# Altium schematic symbol library 4.3 - FLASH存储器.SchLib: 20 symbols
Pins are listed as number, name and electrical type; pins without a type are passive.

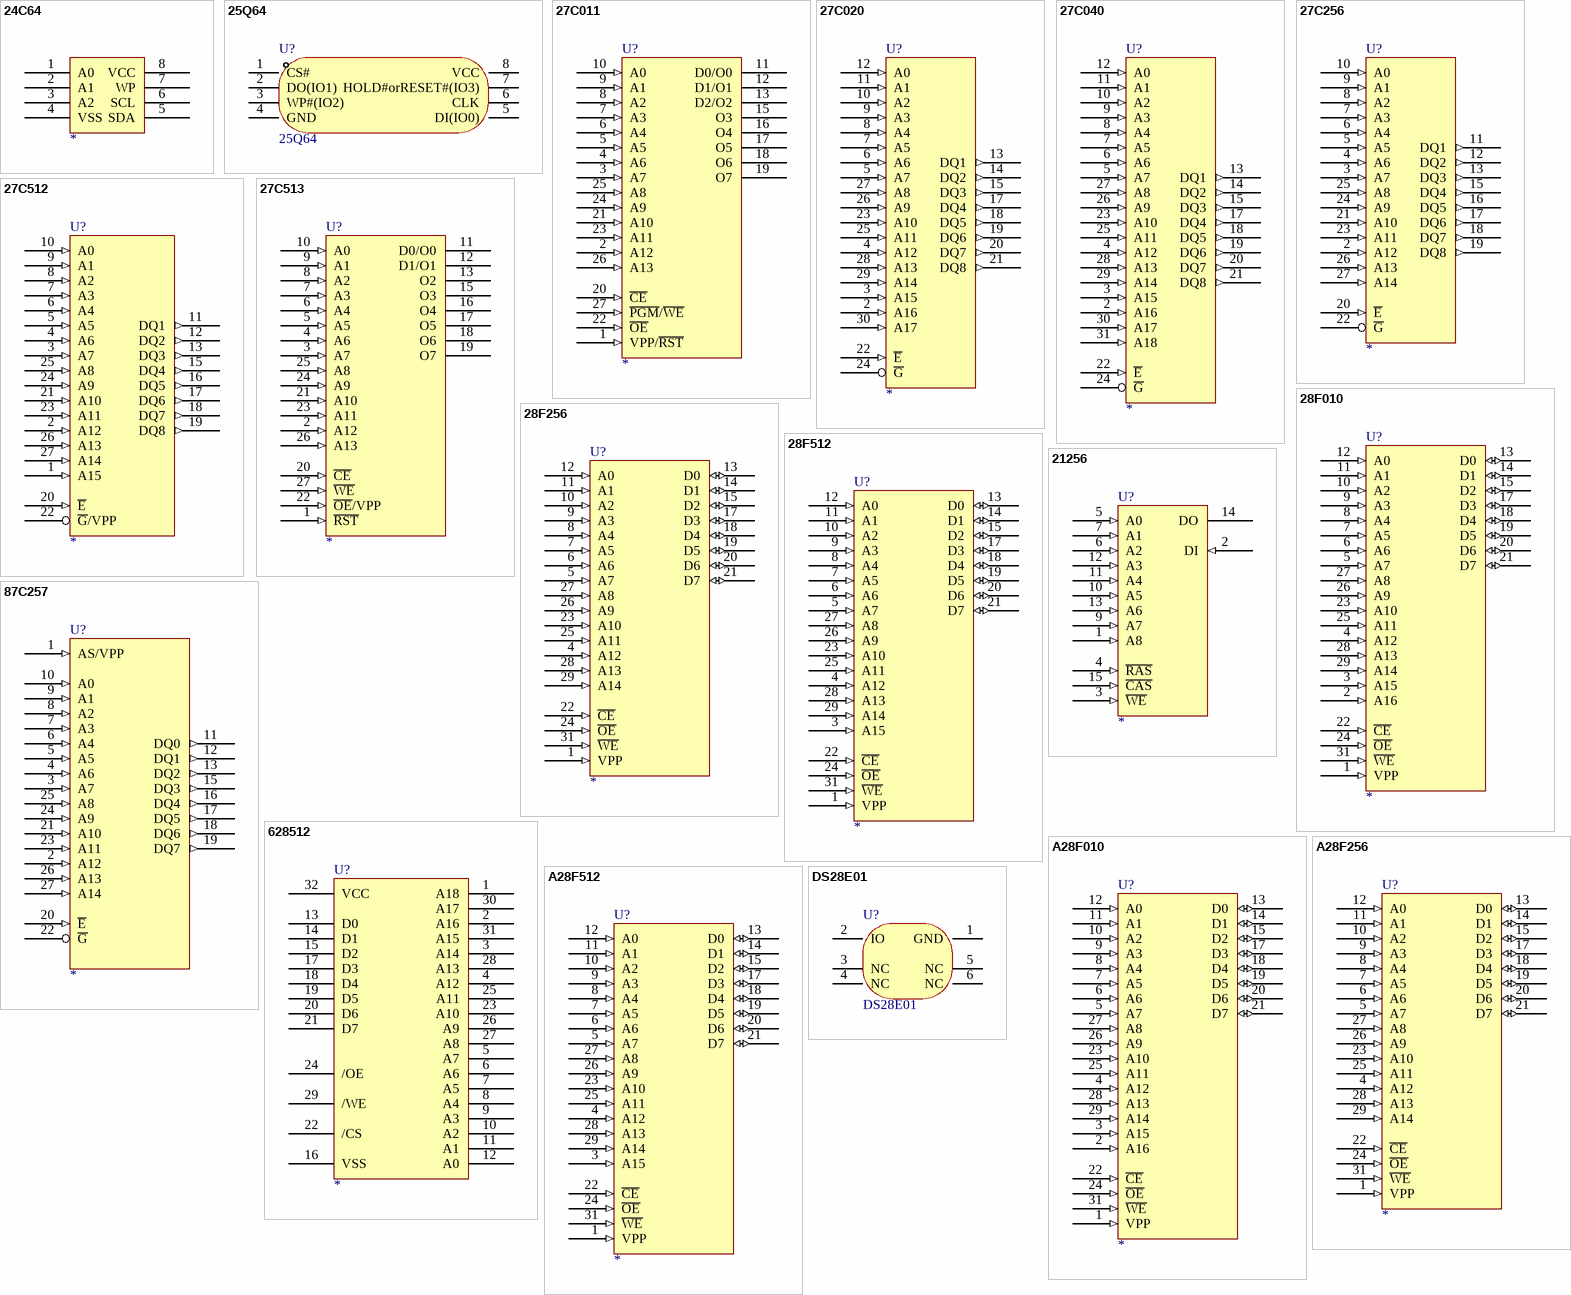
[diagram p0: symbols 24C64 to DS28E01]

## 24C64
designator ?
封装库来自淘宝卖家 ID：黄晶宝石: https://shop463601444.taobao.com
footprint SOP8 (封装库来自淘宝卖家 ID：黄晶宝石)
pins: 1 A0, 2 A1, 3 A2, 4 VSS, 5 SDA, 6 SCL, 7 WP, 8 VCC

## 25Q64
designator U?
NOR FLASH; Manufacturer: Winbond(华邦); Symbol: W25Q64JVSSIQ_C179171; Device: W25Q64JVSSIQ; Add into BOM: yes; Interface: SPI; Memory Size: 64Mbit; Clock Frequency: 133MHz; Voltage - Supply: 2.7V~3.6V; Program / Erase Cycles: 100000次; Page Programming Time (Tpp): 3ms; Block Erase Time(tBE): 150ms@(64KB); Data Retention - TDR (Year): 20年; BOM名称: W25Q64; LCSC Part Name: W25Q64JVSSIQ; Supplier Part: C179171; Manufacturer Part: W25Q64JVSSIQ; Supplier Footprint: SOIC-8-208mil; JLCPCB Part Class: 扩展库; Datasheet: https://item.szlcsc.com/datasheet/W25Q64JVSSIQ/190565.html; Supplier: LCSC; Convert to PCB: yes; Operating Temperature: -
footprint SOIC8_208mil
pins: 1 CS#, 2 DO(IO1), 3 WP#(IO2), 4 GND, 5 DI(IO0), 6 CLK, 7 HOLD#orRESET#(IO3), 8 VCC

## 27C011
designator U?
pins: 1 VPP/~{RST} (in), 2 A12 (in), 3 A7 (in), 4 A6 (in), 5 A5 (in), 6 A4 (in), 7 A3 (in), 8 A2 (in), 9 A1 (in), 10 A0 (in), 11 D0/O0 (hiz), 12 D1/O1 (hiz), 13 D2/O2 (hiz), 14 GND (power) hidden to GND, 15 O3 (hiz), 16 O4 (hiz), 17 O5 (hiz), 18 O6 (hiz), 19 O7 (hiz), 20 ~{CE} (in), 21 A10 (in), 22 ~{OE} (in), 23 A11 (in), 24 A9 (in), 25 A8 (in), 26 A13 (in), 27 ~{PGM}/~{WE} (in), 28 VCC (power) hidden to VCC

## 27C020
designator U?
2 097 152-BIT UV ERASABLE PROGRAMMABLE READ-ONLY MEMORY
footprint DIP-32
pins: 1 VPP (power) hidden to VPP, 2 A16 (in), 3 A15 (in), 4 A12 (in), 5 A7 (in), 6 A6 (in), 7 A5 (in), 8 A4 (in), 9 A3 (in), 10 A2 (in), 11 A1 (in), 12 A0 (in), 13 DQ1 (out), 14 DQ2 (out), 15 DQ3 (out), 16 GND (power) hidden to GND, 17 DQ4 (out), 18 DQ5 (out), 19 DQ6 (out), 20 DQ7 (out), 21 DQ8 (out), 22 ~{E} (in), 23 A10 (in), 24 ~{G}, 25 A11 (in), 26 A9 (in), 27 A8 (in), 28 A13 (in), 29 A14 (in), 30 A17 (in), 32 VCC (power) hidden to VCC
1 alternate drawing of the same symbol

## 27C040
designator U?
4 194 304-BIT UV ERASABLE PROGRAMMABLE READ-ONLY MEMORY
footprint DIP-32
pins: 1 VPP (power) hidden to VPP, 2 A16 (in), 3 A15 (in), 4 A12 (in), 5 A7 (in), 6 A6 (in), 7 A5 (in), 8 A4 (in), 9 A3 (in), 10 A2 (in), 11 A1 (in), 12 A0 (in), 13 DQ1 (out), 14 DQ2 (out), 15 DQ3 (out), 16 GND (power) hidden to GND, 17 DQ4 (out), 18 DQ5 (out), 19 DQ6 (out), 20 DQ7 (out), 21 DQ8 (out), 22 ~{E} (in), 23 A10 (in), 24 ~{G}, 25 A11 (in), 26 A9 (in), 27 A8 (in), 28 A13 (in), 29 A14 (in), 30 A17 (in), 31 A18 (in), 32 VCC (power) hidden to VCC
1 alternate drawing of the same symbol

## 27C256
designator U?
262 144-BIT UV ERASABLE PROGRAMMABLE READ-ONLY MEMORY
footprint DIP-28
pins: 2 A12 (in), 3 A7 (in), 4 A6 (in), 5 A5 (in), 6 A4 (in), 7 A3 (in), 8 A2 (in), 9 A1 (in), 10 A0 (in), 11 DQ1 (out), 12 DQ2 (out), 13 DQ3 (out), 14 GND (power) hidden to GND, 15 DQ4 (out), 16 DQ5 (out), 17 DQ6 (out), 18 DQ7 (out), 19 DQ8 (out), 20 ~{E} (in), 21 A10 (in), 22 ~{G}, 23 A11 (in), 24 A9 (in), 25 A8 (in), 26 A13 (in), 27 A14 (in), 28 VCC (power) hidden to VCC
1 alternate drawing of the same symbol

## 27C512
designator U?
524 288-BIT ERASABLE UV PROGRAMMABLE READ-ONLY MEMORY
footprint DIP-28
pins: 1 A15 (in), 2 A12 (in), 3 A7 (in), 4 A6 (in), 5 A5 (in), 6 A4 (in), 7 A3 (in), 8 A2 (in), 9 A1 (in), 10 A0 (in), 11 DQ1 (out), 12 DQ2 (out), 13 DQ3 (out), 14 GND (power) hidden to GND, 15 DQ4 (out), 16 DQ5 (out), 17 DQ6 (out), 18 DQ7 (out), 19 DQ8 (out), 20 ~{E} (in), 21 A10 (in), 22 ~{G}/VPP, 23 A11 (in), 24 A9 (in), 25 A8 (in), 26 A13 (in), 27 A14 (in), 28 VCC (power) hidden to VCC
1 alternate drawing of the same symbol

## 27C513
designator U?
pins: 1 ~{RST} (in), 2 A12 (in), 3 A7 (in), 4 A6 (in), 5 A5 (in), 6 A4 (in), 7 A3 (in), 8 A2 (in), 9 A1 (in), 10 A0 (in), 11 D0/O0 (hiz), 12 D1/O1 (hiz), 13 O2 (hiz), 14 GND (power) hidden to GND, 15 O3 (hiz), 16 O4 (hiz), 17 O5 (hiz), 18 O6 (hiz), 19 O7 (hiz), 20 ~{CE} (in), 21 A10 (in), 22 ~{OE}/VPP (in), 23 A11 (in), 24 A9 (in), 25 A8 (in), 26 A13 (in), 27 ~{WE} (in), 28 VCC (power) hidden to VCC

## 28F010
designator U?
pins: 1 VPP (in), 2 A16 (in), 3 A15 (in), 4 A12 (in), 5 A7 (in), 6 A6 (in), 7 A5 (in), 8 A4 (in), 9 A3 (in), 10 A2 (in), 11 A1 (in), 12 A0 (in), 13 D0 (io), 14 D1 (io), 15 D2 (io), 16 GND (power) hidden to GND, 17 D3 (io), 18 D4 (io), 19 D5 (io), 20 D6 (io), 21 D7 (io), 22 ~{CE} (in), 23 A10 (in), 24 ~{OE} (in), 25 A11 (in), 26 A9 (in), 27 A8 (in), 28 A13 (in), 29 A14 (in), 31 ~{WE} (in), 32 VCC (power) hidden to VCC

## 28F256
designator U?
pins: 1 VPP (in), 4 A12 (in), 5 A7 (in), 6 A6 (in), 7 A5 (in), 8 A4 (in), 9 A3 (in), 10 A2 (in), 11 A1 (in), 12 A0 (in), 13 D0 (io), 14 D1 (io), 15 D2 (io), 16 VSS (power) hidden to VSS, 17 D3 (io), 18 D4 (io), 19 D5 (io), 20 D6 (io), 21 D7 (io), 22 ~{CE} (in), 23 A10 (in), 24 ~{OE} (in), 25 A11 (in), 26 A9 (in), 27 A8 (in), 28 A13 (in), 29 A14 (in), 31 ~{WE} (in), 32 VCC (power) hidden to VCC

## 28F512
designator U?
pins: 1 VPP (in), 3 A15 (in), 4 A12 (in), 5 A7 (in), 6 A6 (in), 7 A5 (in), 8 A4 (in), 9 A3 (in), 10 A2 (in), 11 A1 (in), 12 A0 (in), 13 D0 (io), 14 D1 (io), 15 D2 (io), 16 VSS (power) hidden to VSS, 17 D3 (io), 18 D4 (io), 19 D5 (io), 20 D6 (io), 21 D7 (io), 22 ~{CE} (in), 23 A10 (in), 24 ~{OE} (in), 25 A11 (in), 26 A9 (in), 27 A8 (in), 28 A13 (in), 29 A14 (in), 31 ~{WE} (in), 32 VCC (power) hidden to VCC

## 87C257
designator U?
262 144-BIT LATCHED UV ERASABLE PROGRAMMABLE READ-ONLY MEMORY
footprint DIP-28
pins: 1 AS/VPP (in), 2 A12 (in), 3 A7 (in), 4 A6 (in), 5 A5 (in), 6 A4 (in), 7 A3 (in), 8 A2 (in), 9 A1 (in), 10 A0 (in), 11 DQ0 (out), 12 DQ1 (out), 13 DQ2 (out), 14 GND (power) hidden to GND, 15 DQ3 (out), 16 DQ4 (out), 17 DQ5 (out), 18 DQ6 (out), 19 DQ7 (out), 20 ~{E} (in), 21 A10 (in), 22 ~{G}, 23 A11 (in), 24 A9 (in), 25 A8 (in), 26 A13 (in), 27 A14 (in), 28 VCC (power) hidden to VCC
1 alternate drawing of the same symbol

## 21256
designator U?
pins: 1 A8 (in), 2 DI (in), 3 ~{WE} (in), 4 ~{RAS} (in), 5 A0 (in), 6 A2 (in), 7 A1 (in), 8 VCC (power) hidden to VCC, 9 A7 (in), 10 A5 (in), 11 A4 (in), 12 A3 (in), 13 A6 (in), 14 DO (hiz), 15 ~{CAS} (in), 16 VSS (power) hidden to VSS

## 628512
designator U?
RAM
pins: 1 A18, 2 A16, 3 A14, 4 A12, 5 A7, 6 A6, 7 A5, 8 A4, 9 A3, 10 A2, 11 A1, 12 A0, 13 D0, 14 D1, 15 D2, 16 VSS, 17 D3, 18 D4, 19 D5, 20 D6, 21 D7, 22 /CS, 23 A10, 24 /OE, 25 A11, 26 A9, 27 A8, 28 A13, 29 /WE, 30 A17, 31 A15, 32 VCC

## A28F010
designator U?
pins: 1 VPP (in), 2 A16 (in), 3 A15 (in), 4 A12 (in), 5 A7 (in), 6 A6 (in), 7 A5 (in), 8 A4 (in), 9 A3 (in), 10 A2 (in), 11 A1 (in), 12 A0 (in), 13 D0 (io), 14 D1 (io), 15 D2 (io), 16 GND (power) hidden to GND, 17 D3 (io), 18 D4 (io), 19 D5 (io), 20 D6 (io), 21 D7 (io), 22 ~{CE} (in), 23 A10 (in), 24 ~{OE} (in), 25 A11 (in), 26 A9 (in), 27 A8 (in), 28 A13 (in), 29 A14 (in), 31 ~{WE} (in), 32 VCC (power) hidden to VCC

## A28F256
designator U?
pins: 1 VPP (in), 4 A12 (in), 5 A7 (in), 6 A6 (in), 7 A5 (in), 8 A4 (in), 9 A3 (in), 10 A2 (in), 11 A1 (in), 12 A0 (in), 13 D0 (io), 14 D1 (io), 15 D2 (io), 16 VSS (power) hidden to VSS, 17 D3 (io), 18 D4 (io), 19 D5 (io), 20 D6 (io), 21 D7 (io), 22 ~{CE} (in), 23 A10 (in), 24 ~{OE} (in), 25 A11 (in), 26 A9 (in), 27 A8 (in), 28 A13 (in), 29 A14 (in), 31 ~{WE} (in), 32 VCC (power) hidden to VCC

## A28F512
designator U?
pins: 1 VPP (in), 3 A15 (in), 4 A12 (in), 5 A7 (in), 6 A6 (in), 7 A5 (in), 8 A4 (in), 9 A3 (in), 10 A2 (in), 11 A1 (in), 12 A0 (in), 13 D0 (io), 14 D1 (io), 15 D2 (io), 16 VSS (power) hidden to VSS, 17 D3 (io), 18 D4 (io), 19 D5 (io), 20 D6 (io), 21 D7 (io), 22 ~{CE} (in), 23 A10 (in), 24 ~{OE} (in), 25 A11 (in), 26 A9 (in), 27 A8 (in), 28 A13 (in), 29 A14 (in), 31 ~{WE} (in), 32 VCC (power) hidden to VCC

## DS28E01
designator U?
EEPROM; Manufacturer: ADI(亚德诺)/MAXIM(美信); Symbol: DS28E01P-100+; Device: DS28E01P-100+T; Add into BOM: yes; Interface: 单总线; Memory Size: 1Kbit; Voltage - Supply: 2.8V~5.25V; Data Retention - TDR (Year): 40年; Write Cycle Endurance: 20万次; LCSC Part Name: DS28E01P-100; Supplier Part: C143315; Manufacturer Part: DS28E01P-100+T; Supplier Footprint: TSOC-6; JLCPCB Part Class: 扩展库; Datasheet: https://item.szlcsc.com/datasheet/DS28E01P-100%252BT/154646.html; Supplier: LCSC; Convert to PCB: yes; Clock Frequency: -; Write Cycle Time(Tw): -; Operating Temperature: -40℃~+85℃
footprint TSOC-6
pins: 1 GND, 2 IO, 3 NC, 4 NC, 5 NC, 6 NC

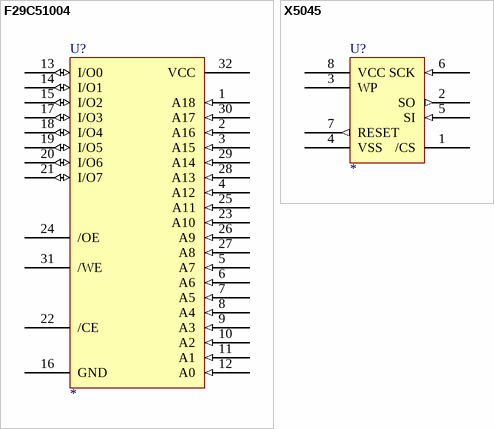
[diagram p1: symbols F29C51004 to X5045]

## F29C51004
designator U?
EEPROM; 封装库来自淘宝卖家 ID：黄晶宝石: 其他店铺购入均为盗版，不享受售后技术支持服务，请立即申请退款
pins: 1 A18 (in), 2 A16 (in), 3 A15 (in), 4 A12 (in), 5 A7 (in), 6 A6 (in), 7 A5 (in), 8 A4 (in), 9 A3 (in), 10 A2 (in), 11 A1 (in), 12 A0 (in), 13 I/O0 (io), 14 I/O1 (io), 15 I/O2 (io), 16 GND (power), 17 I/O3 (io), 18 I/O4 (io), 19 I/O5 (io), 20 I/O6 (io), 21 I/O7 (io), 22 /CE, 23 A10 (in), 24 /OE, 25 A11 (in), 26 A9 (in), 27 A8 (in), 28 A13 (in), 29 A14 (in), 30 A17 (in), 31 /WE, 32 VCC (power)

## X5045
designator U?
EEPROM+Watchdog; 技术支持，联系售后: https://shop463601444.taobao.com
footprint DIP8
pins: 1 /CS, 2 SO (out), 3 WP, 4 VSS (power), 5 SI (in), 6 SCK (in), 7 RESET (out), 8 VCC (power)